# Altium schematic symbol library diode-smd.SchLib: 4 symbols
Pins are listed as number, name and electrical type; pins without a type are passive.

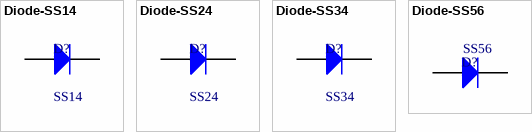
[diagram p0: symbols Diode-SS14 to Diode-SS56]

## Diode-SS14
designator D?, comment SS14
DIODE SCHOTTKY 40V 1A SMA; Manufacturer: ON Semiconductor; Local Supplier: thegioiic; Local Supplier Link: https://www.thegioiic.com/products/ss14-sma-diode-schottky-1a-1n5819; Supplier 1: Digikey; Supplier 1 Link: https://www.digikey.com/product-detail/en/on-semiconductor/SS14/SS14CT-ND/965729; Manufacturer Part Number: SS14; Supplier 1 Part Number: SS14CT-ND
footprint SS14 (DO-214-AC/SMA Molded Diode, Body 5.3x2.6mm, IPC Medium Density)
pins: 1 K, 2 A

## Diode-SS24
designator D?, comment SS24
DIODE SCHOTTKY 40V 2A DO214AA; Manufacturer: ON Semiconductor; Local Supplier: thegioiic; Local Supplier Link: https://thegioiic.com/products/ss24-smb; Supplier 1: Digikey; Supplier 1 Part Number: SS24FSCT-ND; Manufacturer Part Number: SS24; Supplier 1 Link: https://www.digikey.com/product-detail/en/on-semiconductor/SS24/SS24FSCT-ND/1626273
footprint SS24 (DO-214-AC/SMA Molded Diode, Body 5.3x2.6mm, IPC Medium Density)
pins: 1 K, 2 A

## Diode-SS34
designator D?, comment SS34
DIODE SCHOTTKY 40V 3A SMC; Manufacturer: ON Semiconductor; Local Supplier: thegioiic; Local Supplier Link: https://thegioiic.com/products/ss34-sma; Supplier 1: Digikey; Supplier 1 Link: https://www.digikey.com/product-detail/en/on-semiconductor/SS34/SS34FSCT-ND/2094459; Supplier 1 Part Number: SS34FSCT-ND; Manufacturer Part Number: SS34
footprint SS34 (DO-214-AC/SMA Molded Diode, Body 5.3x2.6mm, IPC Medium Density)
pins: 1 K, 2 A

## Diode-SS56
designator D?  value SS56
5.0A Surface Mount Schottky Rectifier; Supplier 1: thegioiic; Supplier 1 Link: https://thegioiic.com/products/ss56-smb
footprint SS56 (DO-214-AC/SMA Molded Diode, Body 5.3x2.6mm, IPC Medium Density)
pins: 1 K, 2 A